# Altium schematic symbol library 2.9 - HT系列单片机.SchLib: 59 symbols
Pins are listed as number, name and electrical type; pins without a type are passive.

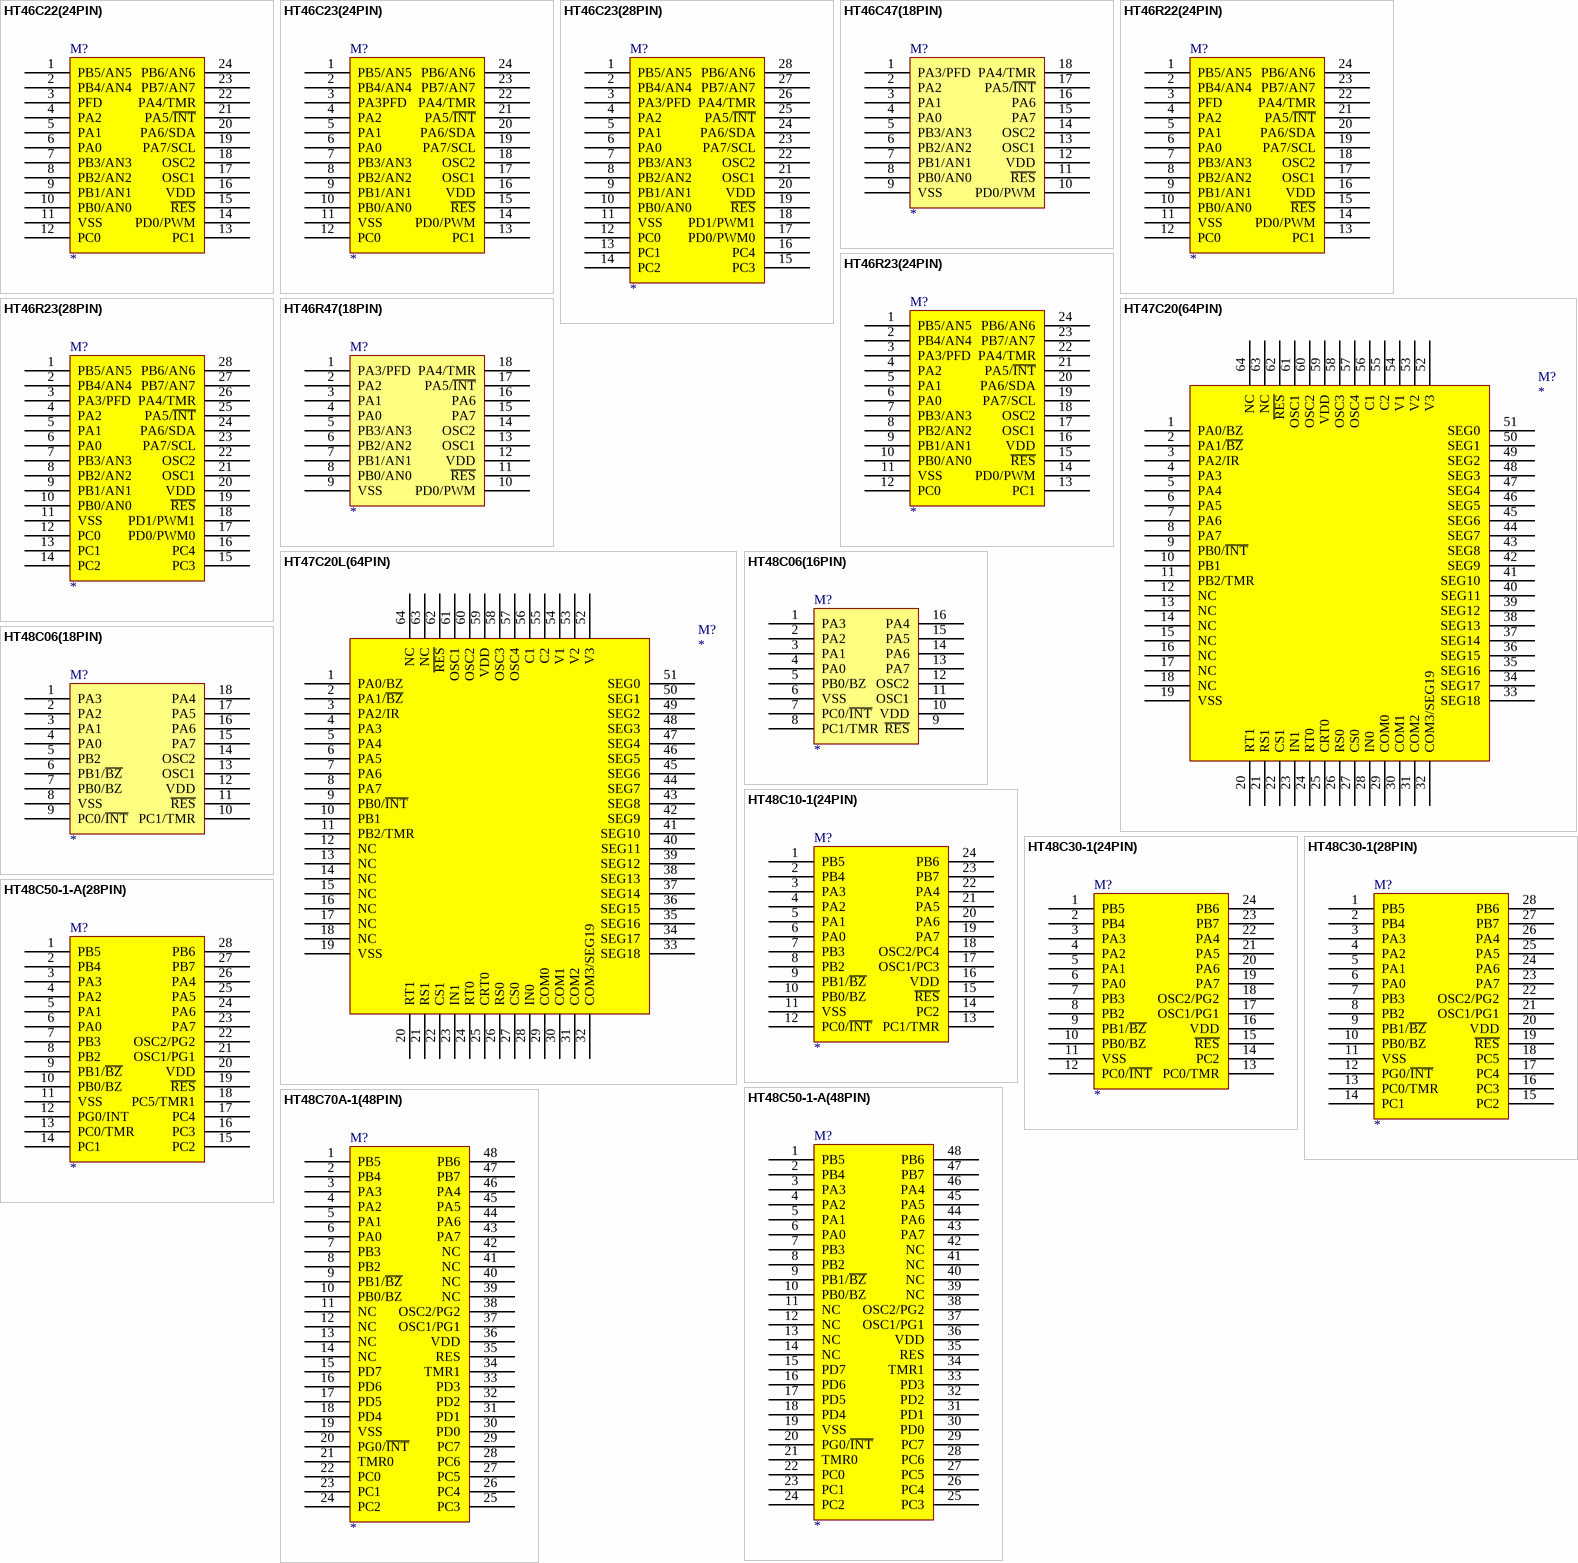
[diagram p0: symbols HT46C22(24PIN) to HT48C70A-1(48PIN)]

## HT46C22(24PIN)
designator M?
HT46C22(24PIN); 唯一出售店铺网址: https://shop463601444.taobao.com
footprint SKDIP24
footprint SOP24
pins: 1 PB5/AN5, 2 PB4/AN4, 3 PFD, 4 PA2, 5 PA1, 6 PA0, 7 PB3/AN3, 8 PB2/AN2, 9 PB1/AN1, 10 PB0/AN0, 11 VSS, 12 PC0, 13 PC1, 14 PD0/PWM, 15 ~{RES}, 16 VDD, 17 OSC1, 18 OSC2, 19 PA7/SCL, 20 PA6/SDA, 21 PA5/~{INT}, 22 PA4/TMR, 23 PB7/AN7, 24 PB6/AN6

## HT46C23(24PIN)
designator M?
HT46C23(24PIN)
footprint SKDIP24
footprint SOP24
pins: 1 PB5/AN5, 2 PB4/AN4, 3 PA3PFD, 4 PA2, 5 PA1, 6 PA0, 7 PB3/AN3, 8 PB2/AN2, 9 PB1/AN1, 10 PB0/AN0, 11 VSS, 12 PC0, 13 PC1, 14 PD0/PWM, 15 ~{RES}, 16 VDD, 17 OSC1, 18 OSC2, 19 PA7/SCL, 20 PA6/SDA, 21 PA5/~{INT}, 22 PA4/TMR, 23 PB7/AN7, 24 PB6/AN6

## HT46C23(28PIN)
designator M?
HT46R23(28PIN)
footprint SKDIP28
footprint SOP28
pins: 1 PB5/AN5, 2 PB4/AN4, 3 PA3/PFD, 4 PA2, 5 PA1, 6 PA0, 7 PB3/AN3, 8 PB2/AN2, 9 PB1/AN1, 10 PB0/AN0, 11 VSS, 12 PC0, 13 PC1, 14 PC2, 15 PC3, 16 PC4, 17 PD0/PWM0, 18 PD1/PWM1, 19 ~{RES}, 20 VDD, 21 OSC1, 22 OSC2, 23 PA7/SCL, 24 PA6/SDA, 25 PA5/~{INT}, 26 PA4/TMR, 27 PB7/AN7, 28 PB6/AN6

## HT46C47(18PIN)
designator M?
HT46C47(18PIN)
footprint DIP18
footprint SOP18
pins: 1 PA3/PFD, 2 PA2, 3 PA1, 4 PA0, 5 PB3/AN3, 6 PB2/AN2, 7 PB1/AN1, 8 PB0/AN0, 9 VSS, 10 PD0/PWM, 11 ~{RES}, 12 VDD, 13 OSC1, 14 OSC2, 15 PA7, 16 PA6, 17 PA5/~{INT}, 18 PA4/TMR

## HT46R22(24PIN)
designator M?
HT46R22(24PIN)
footprint SKDIP24
footprint SOP24
pins: 1 PB5/AN5, 2 PB4/AN4, 3 PFD, 4 PA2, 5 PA1, 6 PA0, 7 PB3/AN3, 8 PB2/AN2, 9 PB1/AN1, 10 PB0/AN0, 11 VSS, 12 PC0, 13 PC1, 14 PD0/PWM, 15 ~{RES}, 16 VDD, 17 OSC1, 18 OSC2, 19 PA7/SCL, 20 PA6/SDA, 21 PA5/~{INT}, 22 PA4/TMR, 23 PB7/AN7, 24 PB6/AN6

## HT46R23(24PIN)
designator M?
HT46R23(24PIN)
footprint SKDIP24
footprint SOP24
pins: 1 PB5/AN5, 2 PB4/AN4, 3 PA3/PFD, 4 PA2, 5 PA1, 6 PA0, 7 PB3/AN3, 8 PB2/AN2, 9 PB1/AN1, 10 PB0/AN0, 11 VSS, 12 PC0, 13 PC1, 14 PD0/PWM, 15 ~{RES}, 16 VDD, 17 OSC1, 18 OSC2, 19 PA7/SCL, 20 PA6/SDA, 21 PA5/~{INT}, 22 PA4/TMR, 23 PB7/AN7, 24 PB6/AN6

## HT46R23(28PIN)
designator M?
HT46R23(28PIN)
footprint SKDIP28
footprint SOP28
pins: 1 PB5/AN5, 2 PB4/AN4, 3 PA3/PFD, 4 PA2, 5 PA1, 6 PA0, 7 PB3/AN3, 8 PB2/AN2, 9 PB1/AN1, 10 PB0/AN0, 11 VSS, 12 PC0, 13 PC1, 14 PC2, 15 PC3, 16 PC4, 17 PD0/PWM0, 18 PD1/PWM1, 19 ~{RES}, 20 VDD, 21 OSC1, 22 OSC2, 23 PA7/SCL, 24 PA6/SDA, 25 PA5/~{INT}, 26 PA4/TMR, 27 PB7/AN7, 28 PB6/AN6

## HT46R47(18PIN)
designator M?
HT46R47(18PIN)
footprint DIP18
footprint SOP18
pins: 1 PA3/PFD, 2 PA2, 3 PA1, 4 PA0, 5 PB3/AN3, 6 PB2/AN2, 7 PB1/AN1, 8 PB0/AN0, 9 VSS, 10 PD0/PWM, 11 ~{RES}, 12 VDD, 13 OSC1, 14 OSC2, 15 PA7, 16 PA6, 17 PA5/~{INT}, 18 PA4/TMR

## HT47C20(64PIN)
designator M?
HT47C20(64PIN)
footprint QFP64
pins: 1 PA0/BZ, 2 PA1/~{BZ}, 3 PA2/IR, 4 PA3, 5 PA4, 6 PA5, 7 PA6, 8 PA7, 9 PB0/~{INT}, 10 PB1, 11 PB2/TMR, 12 NC, 13 NC, 14 NC, 15 NC, 16 NC, 17 NC, 18 NC, 19 VSS, 20 RT1, 21 RS1, 22 CS1, 23 IN1, 24 RT0, 25 CRT0, 26 RS0, 27 CS0, 28 IN0, 29 COM0, 30 COM1, 31 COM2, 32 COM3/SEG19, 33 SEG18, 34 SEG17, 35 SEG16, 36 SEG15, 37 SEG14, 38 SEG13, 39 SEG12, 40 SEG11, 41 SEG10, 42 SEG9, 43 SEG8, 44 SEG7, 45 SEG6, 46 SEG5, 47 SEG4, 48 SEG3, 49 SEG2, 50 SEG1, 51 SEG0, 52 V3, 53 V2, 54 V1, 55 C2, 56 C1, 57 OSC4, 58 OSC3, 59 VDD, 60 OSC2, 61 OSC1, 62 ~{RES}, 63 NC, 64 NC

## HT47C20L(64PIN)
designator M?
HT47C20L(64PIN)
footprint QFP64
pins: 1 PA0/BZ, 2 PA1/~{BZ}, 3 PA2/IR, 4 PA3, 5 PA4, 6 PA5, 7 PA6, 8 PA7, 9 PB0/~{INT}, 10 PB1, 11 PB2/TMR, 12 NC, 13 NC, 14 NC, 15 NC, 16 NC, 17 NC, 18 NC, 19 VSS, 20 RT1, 21 RS1, 22 CS1, 23 IN1, 24 RT0, 25 CRT0, 26 RS0, 27 CS0, 28 IN0, 29 COM0, 30 COM1, 31 COM2, 32 COM3/SEG19, 33 SEG18, 34 SEG17, 35 SEG16, 36 SEG15, 37 SEG14, 38 SEG13, 39 SEG12, 40 SEG11, 41 SEG10, 42 SEG9, 43 SEG8, 44 SEG7, 45 SEG6, 46 SEG5, 47 SEG4, 48 SEG3, 49 SEG2, 50 SEG1, 51 SEG0, 52 V3, 53 V2, 54 V1, 55 C2, 56 C1, 57 OSC4, 58 OSC3, 59 VDD, 60 OSC2, 61 OSC1, 62 ~{RES}, 63 NC, 64 NC

## HT48C06(16PIN)
designator M?
HT48C06(16PIN)
footprint SSOP16
pins: 1 PA3, 2 PA2, 3 PA1, 4 PA0, 5 PB0/BZ, 6 VSS, 7 PC0/~{INT}, 8 PC1/TMR, 9 ~{RES}, 10 VDD, 11 OSC1, 12 OSC2, 13 PA7, 14 PA6, 15 PA5, 16 PA4

## HT48C06(18PIN)
designator M?
HT48C06(18PIN)
footprint DIP18
footprint SOP18
pins: 1 PA3, 2 PA2, 3 PA1, 4 PA0, 5 PB2, 6 PB1/~{BZ}, 7 PB0/BZ, 8 VSS, 9 PC0/~{INT}, 10 PC1/TMR, 11 ~{RES}, 12 VDD, 13 OSC1, 14 OSC2, 15 PA7, 16 PA6, 17 PA5, 18 PA4

## HT48C10-1(24PIN)
designator M?
HT48C10-1(24PIN)
footprint SKDIP24
footprint SOP24
pins: 1 PB5, 2 PB4, 3 PA3, 4 PA2, 5 PA1, 6 PA0, 7 PB3, 8 PB2, 9 PB1/~{BZ}, 10 PB0/BZ, 11 VSS, 12 PC0/~{INT}, 13 PC1/TMR, 14 PC2, 15 ~{RES}, 16 VDD, 17 OSC1/PC3, 18 OSC2/PC4, 19 PA7, 20 PA6, 21 PA5, 22 PA4, 23 PB7, 24 PB6

## HT48C30-1(24PIN)
designator M?
HT48C30-1(24PIN)
footprint SKDIP24
footprint SOP24
pins: 1 PB5, 2 PB4, 3 PA3, 4 PA2, 5 PA1, 6 PA0, 7 PB3, 8 PB2, 9 PB1/~{BZ}, 10 PB0/BZ, 11 VSS, 12 PC0/~{INT}, 13 PC0/TMR, 14 PC2, 15 ~{RES}, 16 VDD, 17 OSC1/PG1, 18 OSC2/PG2, 19 PA7, 20 PA6, 21 PA5, 22 PA4, 23 PB7, 24 PB6

## HT48C30-1(28PIN)
designator M?
HT48C30-1(28PIN)
footprint SKDIP28
footprint SOP28
pins: 1 PB5, 2 PB4, 3 PA3, 4 PA2, 5 PA1, 6 PA0, 7 PB3, 8 PB2, 9 PB1/~{BZ}, 10 PB0/BZ, 11 VSS, 12 PG0/~{INT}, 13 PC0/TMR, 14 PC1, 15 PC2, 16 PC3, 17 PC4, 18 PC5, 19 ~{RES}, 20 VDD, 21 OSC1/PG1, 22 OSC2/PG2, 23 PA7, 24 PA6, 25 PA5, 26 PA4, 27 PB7, 28 PB6

## HT48C50-1-A(28PIN)
designator M?
HT48C50-1-A(28PIN)
footprint SKDIP28
footprint SOP28
pins: 1 PB5, 2 PB4, 3 PA3, 4 PA2, 5 PA1, 6 PA0, 7 PB3, 8 PB2, 9 PB1/~{BZ}, 10 PB0/BZ, 11 VSS, 12 PG0/INT, 13 PC0/TMR, 14 PC1, 15 PC2, 16 PC3, 17 PC4, 18 PC5/TMR1, 19 ~{RES}, 20 VDD, 21 OSC1/PG1, 22 OSC2/PG2, 23 PA7, 24 PA6, 25 PA5, 26 PA4, 27 PB7, 28 PB6

## HT48C50-1-A(48PIN)
designator M?
HT48C50A-1(48PIN)
footprint SSOP48
pins: 1 PB5, 2 PB4, 3 PA3, 4 PA2, 5 PA1, 6 PA0, 7 PB3, 8 PB2, 9 PB1/~{BZ}, 10 PB0/BZ, 11 NC, 12 NC, 13 NC, 14 NC, 15 PD7, 16 PD6, 17 PD5, 18 PD4, 19 VSS, 20 PG0/~{INT}, 21 TMR0, 22 PC0, 23 PC1, 24 PC2, 25 PC3, 26 PC4, 27 PC5, 28 PC6, 29 PC7, 30 PD0, 31 PD1, 32 PD2, 33 PD3, 34 TMR1, 35 RES, 36 VDD, 37 OSC1/PG1, 38 OSC2/PG2, 39 NC, 40 NC, 41 NC, 42 NC, 43 PA7, 44 PA6, 45 PA5, 46 PA4, 47 PB7, 48 PB6

## HT48C70A-1(48PIN)
designator M?
HT48C70A-1(48PIN)
footprint SSOP48
pins: 1 PB5, 2 PB4, 3 PA3, 4 PA2, 5 PA1, 6 PA0, 7 PB3, 8 PB2, 9 PB1/~{BZ}, 10 PB0/BZ, 11 NC, 12 NC, 13 NC, 14 NC, 15 PD7, 16 PD6, 17 PD5, 18 PD4, 19 VSS, 20 PG0/~{INT}, 21 TMR0, 22 PC0, 23 PC1, 24 PC2, 25 PC3, 26 PC4, 27 PC5, 28 PC6, 29 PC7, 30 PD0, 31 PD1, 32 PD2, 33 PD3, 34 TMR1, 35 RES, 36 VDD, 37 OSC1/PG1, 38 OSC2/PG2, 39 NC, 40 NC, 41 NC, 42 NC, 43 PA7, 44 PA6, 45 PA5, 46 PA4, 47 PB7, 48 PB6

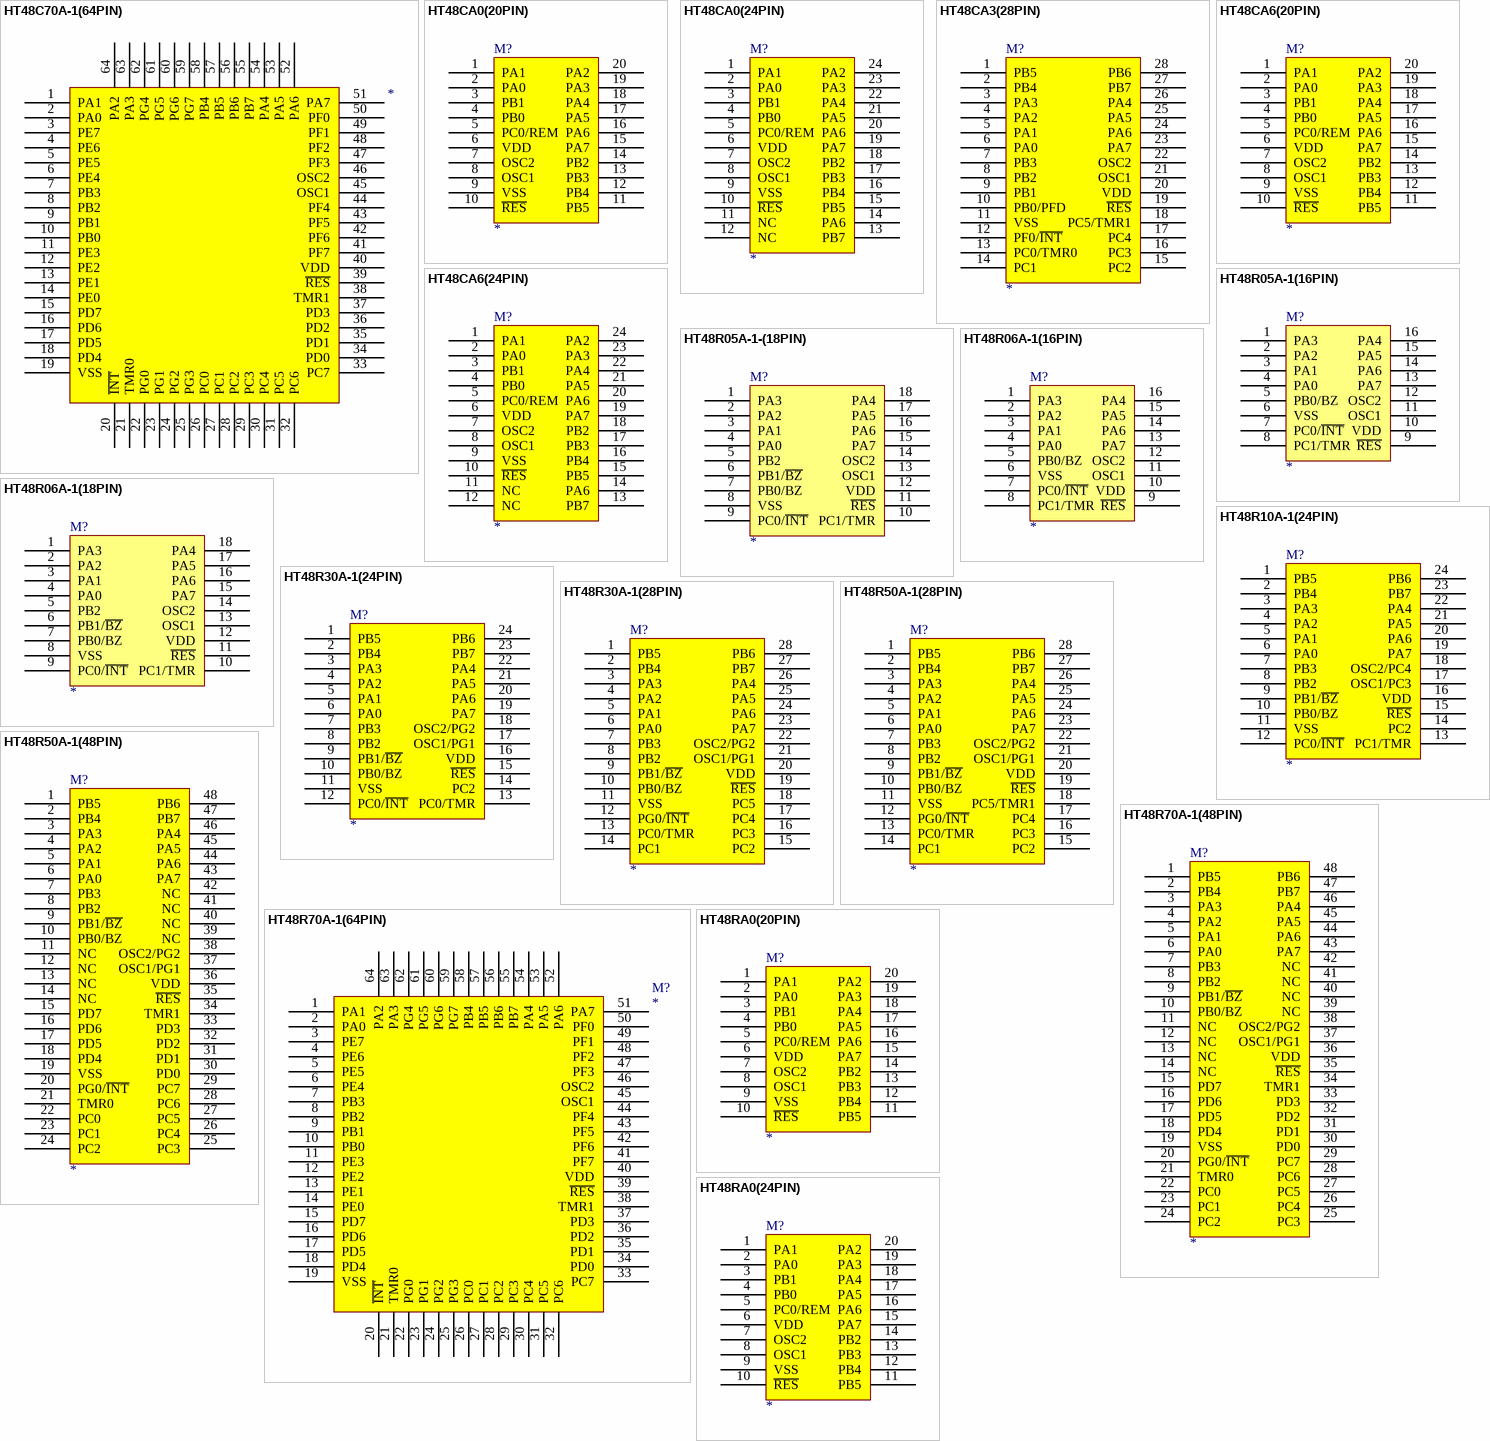
[diagram p1: symbols HT48C70A-1(64PIN) to HT48RA0(24PIN)]

## HT48C70A-1(64PIN)
designator ?
pins: 1 PA1, 2 PA0, 3 PE7, 4 PE6, 5 PE5, 6 PE4, 7 PB3, 8 PB2, 9 PB1, 10 PB0, 11 PE3, 12 PE2, 13 PE1, 14 PE0, 15 PD7, 16 PD6, 17 PD5, 18 PD4, 19 VSS, 20 ~{INT}, 21 TMR0, 22 PG0, 23 PG1, 24 PG2, 25 PG3, 26 PC0, 27 PC1, 28 PC2, 29 PC3, 30 PC4, 31 PC5, 32 PC6, 33 PC7, 34 PD0, 35 PD1, 36 PD2, 37 PD3, 38 TMR1, 39 ~{RES}, 40 VDD, 41 PF7, 42 PF6, 43 PF5, 44 PF4, 45 OSC1, 46 OSC2, 47 PF3, 48 PF2, 49 PF1, 50 PF0, 51 PA7, 52 PA6, 53 PA5, 54 PA4, 55 PB7, 56 PB6, 57 PB5, 58 PB4, 59 PG7, 60 PG6, 61 PG5, 62 PG4, 63 PA3, 64 PA2

## HT48CA0(20PIN)
designator M?
HT48CA0
footprint SOP20
footprint DIP20
pins: 1 PA1, 2 PA0, 3 PB1, 4 PB0, 5 PC0/REM, 6 VDD, 7 OSC2, 8 OSC1, 9 VSS, 10 ~{RES}, 11 PB5, 12 PB4, 13 PB3, 14 PB2, 15 PA7, 16 PA6, 17 PA5, 18 PA4, 19 PA3, 20 PA2

## HT48CA0(24PIN)
designator M?
HT48CA0(24PIN)
footprint SOP24
pins: 1 PA1, 2 PA0, 3 PB1, 4 PB0, 5 PC0/REM, 6 VDD, 7 OSC2, 8 OSC1, 9 VSS, 10 ~{RES}, 11 NC, 12 NC, 13 PB7, 14 PA6, 15 PB5, 16 PB4, 17 PB3, 18 PB2, 19 PA7, 20 PA6, 21 PA5, 22 PA4, 23 PA3, 24 PA2

## HT48CA3(28PIN)
designator M?
HT48CA3(28PIN)
footprint SKDIP28
footprint SOP28
pins: 1 PB5, 2 PB4, 3 PA3, 4 PA2, 5 PA1, 6 PA0, 7 PB3, 8 PB2, 9 PB1, 10 PB0/PFD, 11 VSS, 12 PF0/~{INT}, 13 PC0/TMR0, 14 PC1, 15 PC2, 16 PC3, 17 PC4, 18 PC5/TMR1, 19 ~{RES}, 20 VDD, 21 OSC1, 22 OSC2, 23 PA7, 24 PA6, 25 PA5, 26 PA4, 27 PB7, 28 PB6

## HT48CA6(20PIN)
designator M?
HT48CA6
footprint SOP20
pins: 1 PA1, 2 PA0, 3 PB1, 4 PB0, 5 PC0/REM, 6 VDD, 7 OSC2, 8 OSC1, 9 VSS, 10 ~{RES}, 11 PB5, 12 PB4, 13 PB3, 14 PB2, 15 PA7, 16 PA6, 17 PA5, 18 PA4, 19 PA3, 20 PA2

## HT48CA6(24PIN)
designator M?
HT48CA6(24PIN)
footprint SOP24
pins: 1 PA1, 2 PA0, 3 PB1, 4 PB0, 5 PC0/REM, 6 VDD, 7 OSC2, 8 OSC1, 9 VSS, 10 ~{RES}, 11 NC, 12 NC, 13 PB7, 14 PA6, 15 PB5, 16 PB4, 17 PB3, 18 PB2, 19 PA7, 20 PA6, 21 PA5, 22 PA4, 23 PA3, 24 PA2

## HT48R05A-1(16PIN)
designator M?
HT48R05A-1-16(16PIN)
footprint SSOP16
pins: 1 PA3, 2 PA2, 3 PA1, 4 PA0, 5 PB0/BZ, 6 VSS, 7 PC0/~{INT}, 8 PC1/TMR, 9 ~{RES}, 10 VDD, 11 OSC1, 12 OSC2, 13 PA7, 14 PA6, 15 PA5, 16 PA4

## HT48R05A-1-(18PIN)
designator M?
HT48R05A-1-(18PIN)
footprint DIP18
footprint SOP-18
pins: 1 PA3, 2 PA2, 3 PA1, 4 PA0, 5 PB2, 6 PB1/~{BZ}, 7 PB0/BZ, 8 VSS, 9 PC0/~{INT}, 10 PC1/TMR, 11 ~{RES}, 12 VDD, 13 OSC1, 14 OSC2, 15 PA7, 16 PA6, 17 PA5, 18 PA4

## HT48R06A-1(16PIN)
designator M?
HT48R06A-1(16PIN)
footprint SSOP16
pins: 1 PA3, 2 PA2, 3 PA1, 4 PA0, 5 PB0/BZ, 6 VSS, 7 PC0/~{INT}, 8 PC1/TMR, 9 ~{RES}, 10 VDD, 11 OSC1, 12 OSC2, 13 PA7, 14 PA6, 15 PA5, 16 PA4

## HT48R06A-1(18PIN)
designator M?
HT48R06A-1(18PIN)
footprint DIP18
footprint SOP18
pins: 1 PA3, 2 PA2, 3 PA1, 4 PA0, 5 PB2, 6 PB1/~{BZ}, 7 PB0/BZ, 8 VSS, 9 PC0/~{INT}, 10 PC1/TMR, 11 ~{RES}, 12 VDD, 13 OSC1, 14 OSC2, 15 PA7, 16 PA6, 17 PA5, 18 PA4

## HT48R10A-1(24PIN)
designator M?
HT48R10A-1(24PIN)
footprint SKDIP24
footprint SOP24
pins: 1 PB5, 2 PB4, 3 PA3, 4 PA2, 5 PA1, 6 PA0, 7 PB3, 8 PB2, 9 PB1/~{BZ}, 10 PB0/BZ, 11 VSS, 12 PC0/~{INT}, 13 PC1/TMR, 14 PC2, 15 ~{RES}, 16 VDD, 17 OSC1/PC3, 18 OSC2/PC4, 19 PA7, 20 PA6, 21 PA5, 22 PA4, 23 PB7, 24 PB6

## HT48R30A-1(24PIN)
designator M?
HT48R30A-1(24PIN)
footprint SKDIP24
footprint SOP24
pins: 1 PB5, 2 PB4, 3 PA3, 4 PA2, 5 PA1, 6 PA0, 7 PB3, 8 PB2, 9 PB1/~{BZ}, 10 PB0/BZ, 11 VSS, 12 PC0/~{INT}, 13 PC0/TMR, 14 PC2, 15 ~{RES}, 16 VDD, 17 OSC1/PG1, 18 OSC2/PG2, 19 PA7, 20 PA6, 21 PA5, 22 PA4, 23 PB7, 24 PB6

## HT48R30A-1(28PIN)
designator M?
HT48R30A-1(28PIN)
footprint SKDIP28
footprint SOP28
pins: 1 PB5, 2 PB4, 3 PA3, 4 PA2, 5 PA1, 6 PA0, 7 PB3, 8 PB2, 9 PB1/~{BZ}, 10 PB0/BZ, 11 VSS, 12 PG0/~{INT}, 13 PC0/TMR, 14 PC1, 15 PC2, 16 PC3, 17 PC4, 18 PC5, 19 ~{RES}, 20 VDD, 21 OSC1/PG1, 22 OSC2/PG2, 23 PA7, 24 PA6, 25 PA5, 26 PA4, 27 PB7, 28 PB6

## HT48R50A-1(28PIN)
designator M?
HT48R50A-1(28PIN)
footprint SKDIP28
footprint SOP28
pins: 1 PB5, 2 PB4, 3 PA3, 4 PA2, 5 PA1, 6 PA0, 7 PB3, 8 PB2, 9 PB1/~{BZ}, 10 PB0/BZ, 11 VSS, 12 PG0/~{INT}, 13 PC0/TMR, 14 PC1, 15 PC2, 16 PC3, 17 PC4, 18 PC5/TMR1, 19 ~{RES}, 20 VDD, 21 OSC1/PG1, 22 OSC2/PG2, 23 PA7, 24 PA6, 25 PA5, 26 PA4, 27 PB7, 28 PB6

## HT48R50A-1(48PIN)
designator M?
HT48R50A-1(48PIN)
footprint SSOP48
pins: 1 PB5, 2 PB4, 3 PA3, 4 PA2, 5 PA1, 6 PA0, 7 PB3, 8 PB2, 9 PB1/~{BZ}, 10 PB0/BZ, 11 NC, 12 NC, 13 NC, 14 NC, 15 PD7, 16 PD6, 17 PD5, 18 PD4, 19 VSS, 20 PG0/~{INT}, 21 TMR0, 22 PC0, 23 PC1, 24 PC2, 25 PC3, 26 PC4, 27 PC5, 28 PC6, 29 PC7, 30 PD0, 31 PD1, 32 PD2, 33 PD3, 34 TMR1, 35 ~{RES}, 36 VDD, 37 OSC1/PG1, 38 OSC2/PG2, 39 NC, 40 NC, 41 NC, 42 NC, 43 PA7, 44 PA6, 45 PA5, 46 PA4, 47 PB7, 48 PB6

## HT48R70A-1(48PIN)
designator M?
HT48R70A-1(48PIN)
footprint SSOP48
pins: 1 PB5, 2 PB4, 3 PA3, 4 PA2, 5 PA1, 6 PA0, 7 PB3, 8 PB2, 9 PB1/~{BZ}, 10 PB0/BZ, 11 NC, 12 NC, 13 NC, 14 NC, 15 PD7, 16 PD6, 17 PD5, 18 PD4, 19 VSS, 20 PG0/~{INT}, 21 TMR0, 22 PC0, 23 PC1, 24 PC2, 25 PC3, 26 PC4, 27 PC5, 28 PC6, 29 PC7, 30 PD0, 31 PD1, 32 PD2, 33 PD3, 34 TMR1, 35 ~{RES}, 36 VDD, 37 OSC1/PG1, 38 OSC2/PG2, 39 NC, 40 NC, 41 NC, 42 NC, 43 PA7, 44 PA6, 45 PA5, 46 PA4, 47 PB7, 48 PB6

## HT48R70A-1(64PIN)
designator M?
HT48R70A-1(64PIN)
footprint QFP64
pins: 1 PA1, 2 PA0, 3 PE7, 4 PE6, 5 PE5, 6 PE4, 7 PB3, 8 PB2, 9 PB1, 10 PB0, 11 PE3, 12 PE2, 13 PE1, 14 PE0, 15 PD7, 16 PD6, 17 PD5, 18 PD4, 19 VSS, 20 ~{INT}, 21 TMR0, 22 PG0, 23 PG1, 24 PG2, 25 PG3, 26 PC0, 27 PC1, 28 PC2, 29 PC3, 30 PC4, 31 PC5, 32 PC6, 33 PC7, 34 PD0, 35 PD1, 36 PD2, 37 PD3, 38 TMR1, 39 ~{RES}, 40 VDD, 41 PF7, 42 PF6, 43 PF5, 44 PF4, 45 OSC1, 46 OSC2, 47 PF3, 48 PF2, 49 PF1, 50 PF0, 51 PA7, 52 PA6, 53 PA5, 54 PA4, 55 PB7, 56 PB6, 57 PB5, 58 PB4, 59 PG7, 60 PG6, 61 PG5, 62 PG4, 63 PA3, 64 PA2

## HT48RA0(20PIN)
designator M?
HT48RA0(20PIN)
footprint SOP20
pins: 1 PA1, 2 PA0, 3 PB1, 4 PB0, 5 PC0/REM, 6 VDD, 7 OSC2, 8 OSC1, 9 VSS, 10 ~{RES}, 11 PB5, 12 PB4, 13 PB3, 14 PB2, 15 PA7, 16 PA6, 17 PA5, 18 PA4, 19 PA3, 20 PA2

## HT48RA0(24PIN)
designator M?
HT48RA0(24PIN)
footprint SOP24
pins: 1 PA1, 2 PA0, 3 PB1, 4 PB0, 5 PC0/REM, 6 VDD, 7 OSC2, 8 OSC1, 9 VSS, 10 ~{RES}, 11 PB5, 12 PB4, 13 PB3, 14 PB2, 15 PA7, 16 PA6, 17 PA5, 18 PA4, 19 PA3, 20 PA2

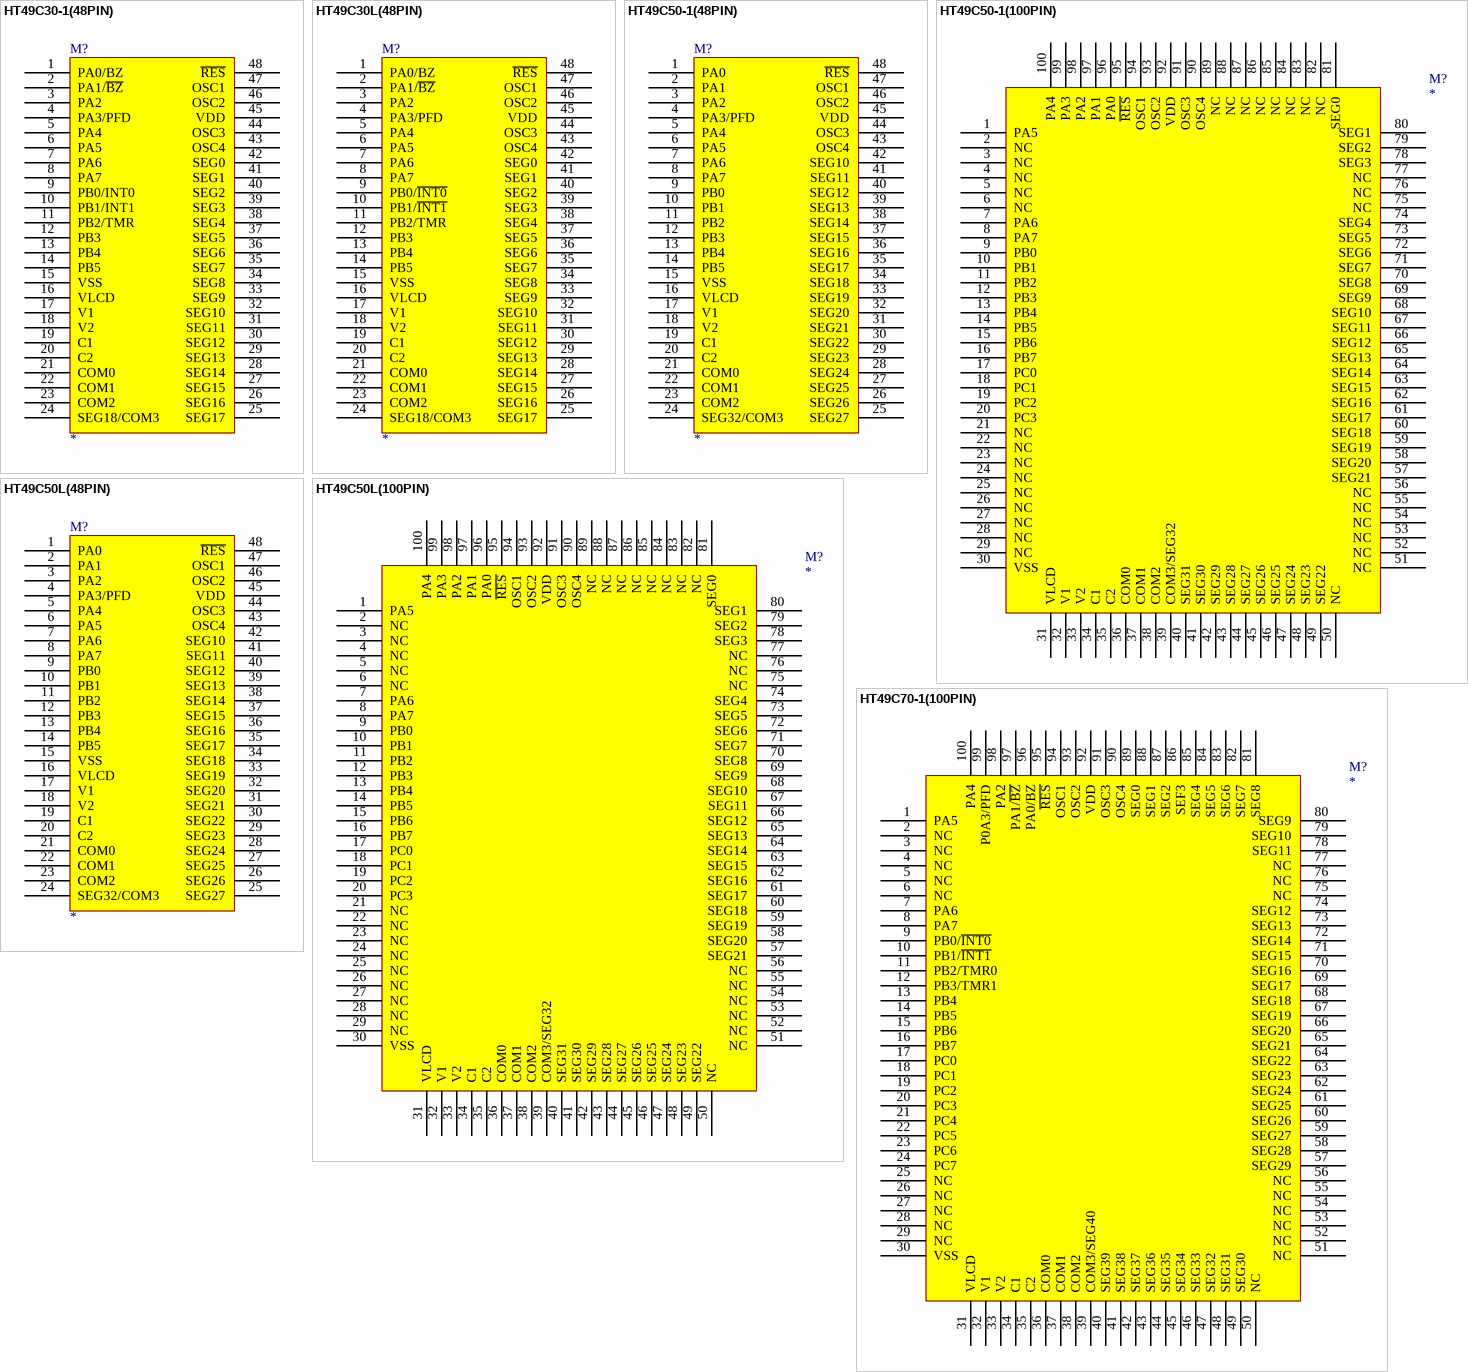
[diagram p2: symbols HT49C30-1(48PIN) to HT49C70-1(100PIN)]

## HT49C30-1(48PIN)
designator M?
HT49C30-1(48PIN)
footprint SSOP48
pins: 1 PA0/BZ, 2 PA1/~{BZ}, 3 PA2, 4 PA3/PFD, 5 PA4, 6 PA5, 7 PA6, 8 PA7, 9 PB0/INT0, 10 PB1/INT1, 11 PB2/TMR, 12 PB3, 13 PB4, 14 PB5, 15 VSS, 16 VLCD, 17 V1, 18 V2, 19 C1, 20 C2, 21 COM0, 22 COM1, 23 COM2, 24 SEG18/COM3, 25 SEG17, 26 SEG16, 27 SEG15, 28 SEG14, 29 SEG13, 30 SEG12, 31 SEG11, 32 SEG10, 33 SEG9, 34 SEG8, 35 SEG7, 36 SEG6, 37 SEG5, 38 SEG4, 39 SEG3, 40 SEG2, 41 SEG1, 42 SEG0, 43 OSC4, 44 OSC3, 45 VDD, 46 OSC2, 47 OSC1, 48 ~{RES}

## HT49C30L(48PIN)
designator M?
HT49C30L(48PIN)
footprint SSOP48
pins: 1 PA0/BZ, 2 PA1/~{BZ}, 3 PA2, 4 PA3/PFD, 5 PA4, 6 PA5, 7 PA6, 8 PA7, 9 PB0/~{INT0}, 10 PB1/~{INT1}, 11 PB2/TMR, 12 PB3, 13 PB4, 14 PB5, 15 VSS, 16 VLCD, 17 V1, 18 V2, 19 C1, 20 C2, 21 COM0, 22 COM1, 23 COM2, 24 SEG18/COM3, 25 SEG17, 26 SEG16, 27 SEG15, 28 SEG14, 29 SEG13, 30 SEG12, 31 SEG11, 32 SEG10, 33 SEG9, 34 SEG8, 35 SEG7, 36 SEG6, 37 SEG5, 38 SEG4, 39 SEG3, 40 SEG2, 41 SEG1, 42 SEG0, 43 OSC4, 44 OSC3, 45 VDD, 46 OSC2, 47 OSC1, 48 ~{RES}

## HT49C50-1(48PIN)
designator M?
HT49C50-1(48PIN)
footprint SSOP48
pins: 1 PA0, 2 PA1, 3 PA2, 4 PA3/PFD, 5 PA4, 6 PA5, 7 PA6, 8 PA7, 9 PB0, 10 PB1, 11 PB2, 12 PB3, 13 PB4, 14 PB5, 15 VSS, 16 VLCD, 17 V1, 18 V2, 19 C1, 20 C2, 21 COM0, 22 COM1, 23 COM2, 24 SEG32/COM3, 25 SEG27, 26 SEG26, 27 SEG25, 28 SEG24, 29 SEG23, 30 SEG22, 31 SEG21, 32 SEG20, 33 SEG19, 34 SEG18, 35 SEG17, 36 SEG16, 37 SEG15, 38 SEG14, 39 SEG13, 40 SEG12, 41 SEG11, 42 SEG10, 43 OSC4, 44 OSC3, 45 VDD, 46 OSC2, 47 OSC1, 48 ~{RES}

## HT49C50-1(100PIN)
designator M?
HT49C50-1(100QFP)
footprint QFP100
pins: 1 PA5, 2 NC, 3 NC, 4 NC, 5 NC, 6 NC, 7 PA6, 8 PA7, 9 PB0, 10 PB1, 11 PB2, 12 PB3, 13 PB4, 14 PB5, 15 PB6, 16 PB7, 17 PC0, 18 PC1, 19 PC2, 20 PC3, 21 NC, 22 NC, 23 NC, 24 NC, 25 NC, 26 NC, 27 NC, 28 NC, 29 NC, 30 VSS, 31 VLCD, 32 V1, 33 V2, 34 C1, 35 C2, 36 COM0, 37 COM1, 38 COM2, 39 COM3/SEG32, 40 SEG31, 41 SEG30, 42 SEG29, 43 SEG28, 44 SEG27, 45 SEG26, 46 SEG25, 47 SEG24, 48 SEG23, 49 SEG22, 50 NC, 51 NC, 52 NC, 53 NC, 54 NC, 55 NC, 56 NC, 57 SEG21, 58 SEG20, 59 SEG19, 60 SEG18, 61 SEG17, 62 SEG16, 63 SEG15, 64 SEG14, 65 SEG13, 66 SEG12, 67 SEG11, 68 SEG10, 69 SEG9, 70 SEG8, 71 SEG7, 72 SEG6, 73 SEG5, 74 SEG4, 75 NC, 76 NC, 77 NC, 78 SEG3, 79 SEG2, 80 SEG1, 81 SEG0, 82 NC, 83 NC, 84 NC, 85 NC, 86 NC, 87 NC, 88 NC, 89 NC, 90 OSC4, 91 OSC3, 92 VDD, 93 OSC2, 94 OSC1, 95 ~{RES}, 96 PA0, 97 PA1, 98 PA2, 99 PA3, 100 PA4

## HT49C50L(48PIN)
designator M?
HT49C50L(48PIN)
footprint SSOP48
pins: 1 PA0, 2 PA1, 3 PA2, 4 PA3/PFD, 5 PA4, 6 PA5, 7 PA6, 8 PA7, 9 PB0, 10 PB1, 11 PB2, 12 PB3, 13 PB4, 14 PB5, 15 VSS, 16 VLCD, 17 V1, 18 V2, 19 C1, 20 C2, 21 COM0, 22 COM1, 23 COM2, 24 SEG32/COM3, 25 SEG27, 26 SEG26, 27 SEG25, 28 SEG24, 29 SEG23, 30 SEG22, 31 SEG21, 32 SEG20, 33 SEG19, 34 SEG18, 35 SEG17, 36 SEG16, 37 SEG15, 38 SEG14, 39 SEG13, 40 SEG12, 41 SEG11, 42 SEG10, 43 OSC4, 44 OSC3, 45 VDD, 46 OSC2, 47 OSC1, 48 ~{RES}

## HT49C50L(100PIN)
designator M?
HT49C50L(100PIN)
footprint QFP100
pins: 1 PA5, 2 NC, 3 NC, 4 NC, 5 NC, 6 NC, 7 PA6, 8 PA7, 9 PB0, 10 PB1, 11 PB2, 12 PB3, 13 PB4, 14 PB5, 15 PB6, 16 PB7, 17 PC0, 18 PC1, 19 PC2, 20 PC3, 21 NC, 22 NC, 23 NC, 24 NC, 25 NC, 26 NC, 27 NC, 28 NC, 29 NC, 30 VSS, 31 VLCD, 32 V1, 33 V2, 34 C1, 35 C2, 36 COM0, 37 COM1, 38 COM2, 39 COM3/SEG32, 40 SEG31, 41 SEG30, 42 SEG29, 43 SEG28, 44 SEG27, 45 SEG26, 46 SEG25, 47 SEG24, 48 SEG23, 49 SEG22, 50 NC, 51 NC, 52 NC, 53 NC, 54 NC, 55 NC, 56 NC, 57 SEG21, 58 SEG20, 59 SEG19, 60 SEG18, 61 SEG17, 62 SEG16, 63 SEG15, 64 SEG14, 65 SEG13, 66 SEG12, 67 SEG11, 68 SEG10, 69 SEG9, 70 SEG8, 71 SEG7, 72 SEG6, 73 SEG5, 74 SEG4, 75 NC, 76 NC, 77 NC, 78 SEG3, 79 SEG2, 80 SEG1, 81 SEG0, 82 NC, 83 NC, 84 NC, 85 NC, 86 NC, 87 NC, 88 NC, 89 NC, 90 OSC4, 91 OSC3, 92 VDD, 93 OSC2, 94 OSC1, 95 ~{RES}, 96 PA0, 97 PA1, 98 PA2, 99 PA3, 100 PA4

## HT49C70-1(100PIN)
designator M?
HT49C70-1(100PIN)
footprint QFP100
pins: 1 PA5, 2 NC, 3 NC, 4 NC, 5 NC, 6 NC, 7 PA6, 8 PA7, 9 PB0/~{INT0}, 10 PB1/~{INT1}, 11 PB2/TMR0, 12 PB3/TMR1, 13 PB4, 14 PB5, 15 PB6, 16 PB7, 17 PC0, 18 PC1, 19 PC2, 20 PC3, 21 PC4, 22 PC5, 23 PC6, 24 PC7, 25 NC, 26 NC, 27 NC, 28 NC, 29 NC, 30 VSS, 31 VLCD, 32 V1, 33 V2, 34 C1, 35 C2, 36 COM0, 37 COM1, 38 COM2, 39 COM3/SEG40, 40 SEG39, 41 SEG38, 42 SEG37, 43 SEG36, 44 SEG35, 45 SEG34, 46 SEG33, 47 SEG32, 48 SEG31, 49 SEG30, 50 NC, 51 NC, 52 NC, 53 NC, 54 NC, 55 NC, 56 NC, 57 SEG29, 58 SEG28, 59 SEG27, 60 SEG26, 61 SEG25, 62 SEG24, 63 SEG23, 64 SEG22, 65 SEG21, 66 SEG20, 67 SEG19, 68 SEG18, 69 SEG17, 70 SEG16, 71 SEG15, 72 SEG14, 73 SEG13, 74 SEG12, 75 NC, 76 NC, 77 NC, 78 SEG11, 79 SEG10, 80 SEG9, 81 SEG8, 82 SEG7, 83 SEG6, 84 SEG5, 85 SEG4, 86 SEF3, 87 SEG2, 88 SEG1, 89 SEG0, 90 OSC4, 91 OSC3, 92 VDD, 93 OSC2, 94 OSC1, 95 ~{RES}, 96 PA0/BZ, 97 PA1/~{BZ}, 98 PA2, 99 P0A3/PFD, 100 PA4

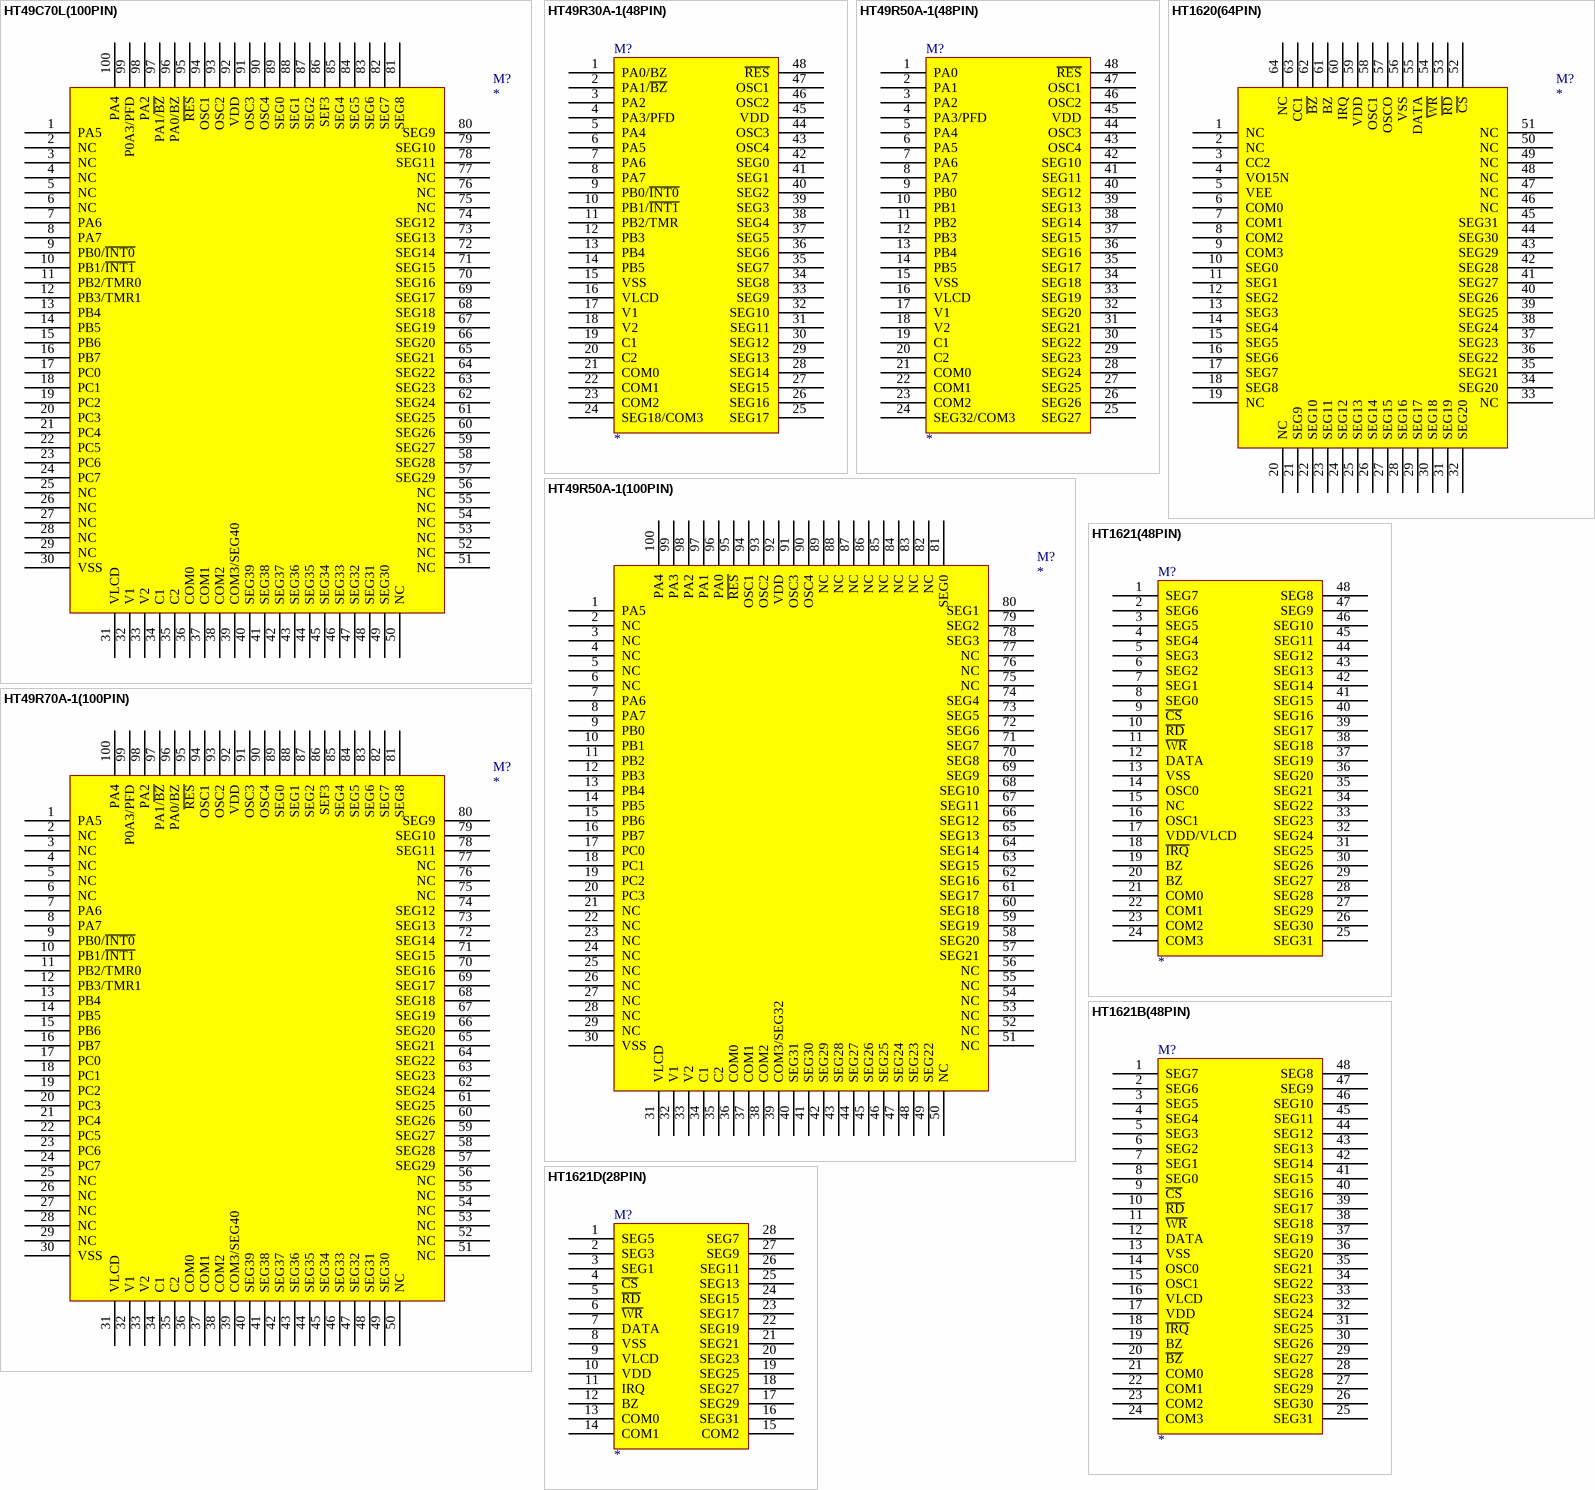
[diagram p3: symbols HT49C70L(100PIN) to HT1621D(28PIN)]

## HT49C70L(100PIN)
designator M?
HT49C70L(100PIN)
footprint QFP100
pins: 1 PA5, 2 NC, 3 NC, 4 NC, 5 NC, 6 NC, 7 PA6, 8 PA7, 9 PB0/~{INT0}, 10 PB1/~{INT1}, 11 PB2/TMR0, 12 PB3/TMR1, 13 PB4, 14 PB5, 15 PB6, 16 PB7, 17 PC0, 18 PC1, 19 PC2, 20 PC3, 21 PC4, 22 PC5, 23 PC6, 24 PC7, 25 NC, 26 NC, 27 NC, 28 NC, 29 NC, 30 VSS, 31 VLCD, 32 V1, 33 V2, 34 C1, 35 C2, 36 COM0, 37 COM1, 38 COM2, 39 COM3/SEG40, 40 SEG39, 41 SEG38, 42 SEG37, 43 SEG36, 44 SEG35, 45 SEG34, 46 SEG33, 47 SEG32, 48 SEG31, 49 SEG30, 50 NC, 51 NC, 52 NC, 53 NC, 54 NC, 55 NC, 56 NC, 57 SEG29, 58 SEG28, 59 SEG27, 60 SEG26, 61 SEG25, 62 SEG24, 63 SEG23, 64 SEG22, 65 SEG21, 66 SEG20, 67 SEG19, 68 SEG18, 69 SEG17, 70 SEG16, 71 SEG15, 72 SEG14, 73 SEG13, 74 SEG12, 75 NC, 76 NC, 77 NC, 78 SEG11, 79 SEG10, 80 SEG9, 81 SEG8, 82 SEG7, 83 SEG6, 84 SEG5, 85 SEG4, 86 SEF3, 87 SEG2, 88 SEG1, 89 SEG0, 90 OSC4, 91 OSC3, 92 VDD, 93 OSC2, 94 OSC1, 95 ~{RES}, 96 PA0/BZ, 97 PA1/~{BZ}, 98 PA2, 99 P0A3/PFD, 100 PA4

## HT49R30A-1(48PIN)
designator M?
HT49R30A-1(48PIN)
footprint SSOP48
pins: 1 PA0/BZ, 2 PA1/~{BZ}, 3 PA2, 4 PA3/PFD, 5 PA4, 6 PA5, 7 PA6, 8 PA7, 9 PB0/~{INT0}, 10 PB1/~{INT1}, 11 PB2/TMR, 12 PB3, 13 PB4, 14 PB5, 15 VSS, 16 VLCD, 17 V1, 18 V2, 19 C1, 20 C2, 21 COM0, 22 COM1, 23 COM2, 24 SEG18/COM3, 25 SEG17, 26 SEG16, 27 SEG15, 28 SEG14, 29 SEG13, 30 SEG12, 31 SEG11, 32 SEG10, 33 SEG9, 34 SEG8, 35 SEG7, 36 SEG6, 37 SEG5, 38 SEG4, 39 SEG3, 40 SEG2, 41 SEG1, 42 SEG0, 43 OSC4, 44 OSC3, 45 VDD, 46 OSC2, 47 OSC1, 48 ~{RES}

## HT49R50A-1(48PIN)
designator M?
HT49R50A-1(48PIN)
footprint SSOP48
pins: 1 PA0, 2 PA1, 3 PA2, 4 PA3/PFD, 5 PA4, 6 PA5, 7 PA6, 8 PA7, 9 PB0, 10 PB1, 11 PB2, 12 PB3, 13 PB4, 14 PB5, 15 VSS, 16 VLCD, 17 V1, 18 V2, 19 C1, 20 C2, 21 COM0, 22 COM1, 23 COM2, 24 SEG32/COM3, 25 SEG27, 26 SEG26, 27 SEG25, 28 SEG24, 29 SEG23, 30 SEG22, 31 SEG21, 32 SEG20, 33 SEG19, 34 SEG18, 35 SEG17, 36 SEG16, 37 SEG15, 38 SEG14, 39 SEG13, 40 SEG12, 41 SEG11, 42 SEG10, 43 OSC4, 44 OSC3, 45 VDD, 46 OSC2, 47 OSC1, 48 ~{RES}

## HT49R50A-1(100PIN)
designator M?
HT49R50A-1(100PIN)
footprint QFP100
pins: 1 PA5, 2 NC, 3 NC, 4 NC, 5 NC, 6 NC, 7 PA6, 8 PA7, 9 PB0, 10 PB1, 11 PB2, 12 PB3, 13 PB4, 14 PB5, 15 PB6, 16 PB7, 17 PC0, 18 PC1, 19 PC2, 20 PC3, 21 NC, 22 NC, 23 NC, 24 NC, 25 NC, 26 NC, 27 NC, 28 NC, 29 NC, 30 VSS, 31 VLCD, 32 V1, 33 V2, 34 C1, 35 C2, 36 COM0, 37 COM1, 38 COM2, 39 COM3/SEG32, 40 SEG31, 41 SEG30, 42 SEG29, 43 SEG28, 44 SEG27, 45 SEG26, 46 SEG25, 47 SEG24, 48 SEG23, 49 SEG22, 50 NC, 51 NC, 52 NC, 53 NC, 54 NC, 55 NC, 56 NC, 57 SEG21, 58 SEG20, 59 SEG19, 60 SEG18, 61 SEG17, 62 SEG16, 63 SEG15, 64 SEG14, 65 SEG13, 66 SEG12, 67 SEG11, 68 SEG10, 69 SEG9, 70 SEG8, 71 SEG7, 72 SEG6, 73 SEG5, 74 SEG4, 75 NC, 76 NC, 77 NC, 78 SEG3, 79 SEG2, 80 SEG1, 81 SEG0, 82 NC, 83 NC, 84 NC, 85 NC, 86 NC, 87 NC, 88 NC, 89 NC, 90 OSC4, 91 OSC3, 92 VDD, 93 OSC2, 94 OSC1, 95 ~{RES}, 96 PA0, 97 PA1, 98 PA2, 99 PA3, 100 PA4

## HT49R70A-1(100PIN)
designator M?
HT49R70A-1(100QFP)
footprint QFP100
pins: 1 PA5, 2 NC, 3 NC, 4 NC, 5 NC, 6 NC, 7 PA6, 8 PA7, 9 PB0/~{INT0}, 10 PB1/~{INT1}, 11 PB2/TMR0, 12 PB3/TMR1, 13 PB4, 14 PB5, 15 PB6, 16 PB7, 17 PC0, 18 PC1, 19 PC2, 20 PC3, 21 PC4, 22 PC5, 23 PC6, 24 PC7, 25 NC, 26 NC, 27 NC, 28 NC, 29 NC, 30 VSS, 31 VLCD, 32 V1, 33 V2, 34 C1, 35 C2, 36 COM0, 37 COM1, 38 COM2, 39 COM3/SEG40, 40 SEG39, 41 SEG38, 42 SEG37, 43 SEG36, 44 SEG35, 45 SEG34, 46 SEG33, 47 SEG32, 48 SEG31, 49 SEG30, 50 NC, 51 NC, 52 NC, 53 NC, 54 NC, 55 NC, 56 NC, 57 SEG29, 58 SEG28, 59 SEG27, 60 SEG26, 61 SEG25, 62 SEG24, 63 SEG23, 64 SEG22, 65 SEG21, 66 SEG20, 67 SEG19, 68 SEG18, 69 SEG17, 70 SEG16, 71 SEG15, 72 SEG14, 73 SEG13, 74 SEG12, 75 NC, 76 NC, 77 NC, 78 SEG11, 79 SEG10, 80 SEG9, 81 SEG8, 82 SEG7, 83 SEG6, 84 SEG5, 85 SEG4, 86 SEF3, 87 SEG2, 88 SEG1, 89 SEG0, 90 OSC4, 91 OSC3, 92 VDD, 93 OSC2, 94 OSC1, 95 ~{RES}, 96 PA0/BZ, 97 PA1/~{BZ}, 98 PA2, 99 P0A3/PFD, 100 PA4

## HT1620(64PIN)
designator M?
HT1620(64PIN)
footprint QFP64
pins: 1 NC, 2 NC, 3 CC2, 4 VO15N, 5 VEE, 6 COM0, 7 COM1, 8 COM2, 9 COM3, 10 SEG0, 11 SEG1, 12 SEG2, 13 SEG3, 14 SEG4, 15 SEG5, 16 SEG6, 17 SEG7, 18 SEG8, 19 NC, 20 NC, 21 SEG9, 22 SEG10, 23 SEG11, 24 SEG12, 25 SEG13, 26 SEG14, 27 SEG15, 28 SEG16, 29 SEG17, 30 SEG18, 31 SEG19, 32 SEG20, 33 NC, 34 SEG20, 35 SEG21, 36 SEG22, 37 SEG23, 38 SEG24, 39 SEG25, 40 SEG26, 41 SEG27, 42 SEG28, 43 SEG29, 44 SEG30, 45 SEG31, 46 NC, 47 NC, 48 NC, 49 NC, 50 NC, 51 NC, 52 ~{CS}, 53 ~{RD}, 54 ~{WR}, 55 DATA, 56 VSS, 57 OSCO, 58 OSC1, 59 VDD, 60 IRQ, 61 BZ, 62 ~{BZ}, 63 CC1, 64 NC

## HT1621(48PIN)
designator M?
HT1621(48PIN)
footprint SSOP48
pins: 1 SEG7, 2 SEG6, 3 SEG5, 4 SEG4, 5 SEG3, 6 SEG2, 7 SEG1, 8 SEG0, 9 ~{CS}, 10 ~{RD}, 11 ~{WR}, 12 DATA, 13 VSS, 14 OSC0, 15 NC, 16 OSC1, 17 VDD/VLCD, 18 ~{IRQ}, 19 BZ, 20 BZ, 21 COM0, 22 COM1, 23 COM2, 24 COM3, 25 SEG31, 26 SEG30, 27 SEG29, 28 SEG28, 29 SEG27, 30 SEG26, 31 SEG25, 32 SEG24, 33 SEG23, 34 SEG22, 35 SEG21, 36 SEG20, 37 SEG19, 38 SEG18, 39 SEG17, 40 SEG16, 41 SEG15, 42 SEG14, 43 SEG13, 44 SEG12, 45 SEG11, 46 SEG10, 47 SEG9, 48 SEG8

## HT1621B(48PIN)
designator M?
HT1621B(48PIN)
footprint SSOP48
footprint DIP48
pins: 1 SEG7, 2 SEG6, 3 SEG5, 4 SEG4, 5 SEG3, 6 SEG2, 7 SEG1, 8 SEG0, 9 ~{CS}, 10 ~{RD}, 11 ~{WR}, 12 DATA, 13 VSS, 14 OSC0, 15 OSC1, 16 VLCD, 17 VDD, 18 ~{IRQ}, 19 BZ, 20 ~{BZ}, 21 COM0, 22 COM1, 23 COM2, 24 COM3, 25 SEG31, 26 SEG30, 27 SEG29, 28 SEG28, 29 SEG27, 30 SEG26, 31 SEG25, 32 SEG24, 33 SEG23, 34 SEG22, 35 SEG21, 36 SEG20, 37 SEG19, 38 SEG18, 39 SEG17, 40 SEG16, 41 SEG15, 42 SEG14, 43 SEG13, 44 SEG12, 45 SEG11, 46 SEG10, 47 SEG9, 48 SEG8

## HT1621D(28PIN)
designator M?
HT1621D(28PIN)
footprint SKDIP28
pins: 1 SEG5, 2 SEG3, 3 SEG1, 4 ~{CS}, 5 ~{RD}, 6 ~{WR}, 7 DATA, 8 VSS, 9 VLCD, 10 VDD, 11 IRQ, 12 BZ, 13 COM0, 14 COM1, 15 COM2, 16 SEG31, 17 SEG29, 18 SEG27, 19 SEG25, 20 SEG23, 21 SEG21, 22 SEG19, 23 SEG17, 24 SEG15, 25 SEG13, 26 SEG11, 27 SEG9, 28 SEG7

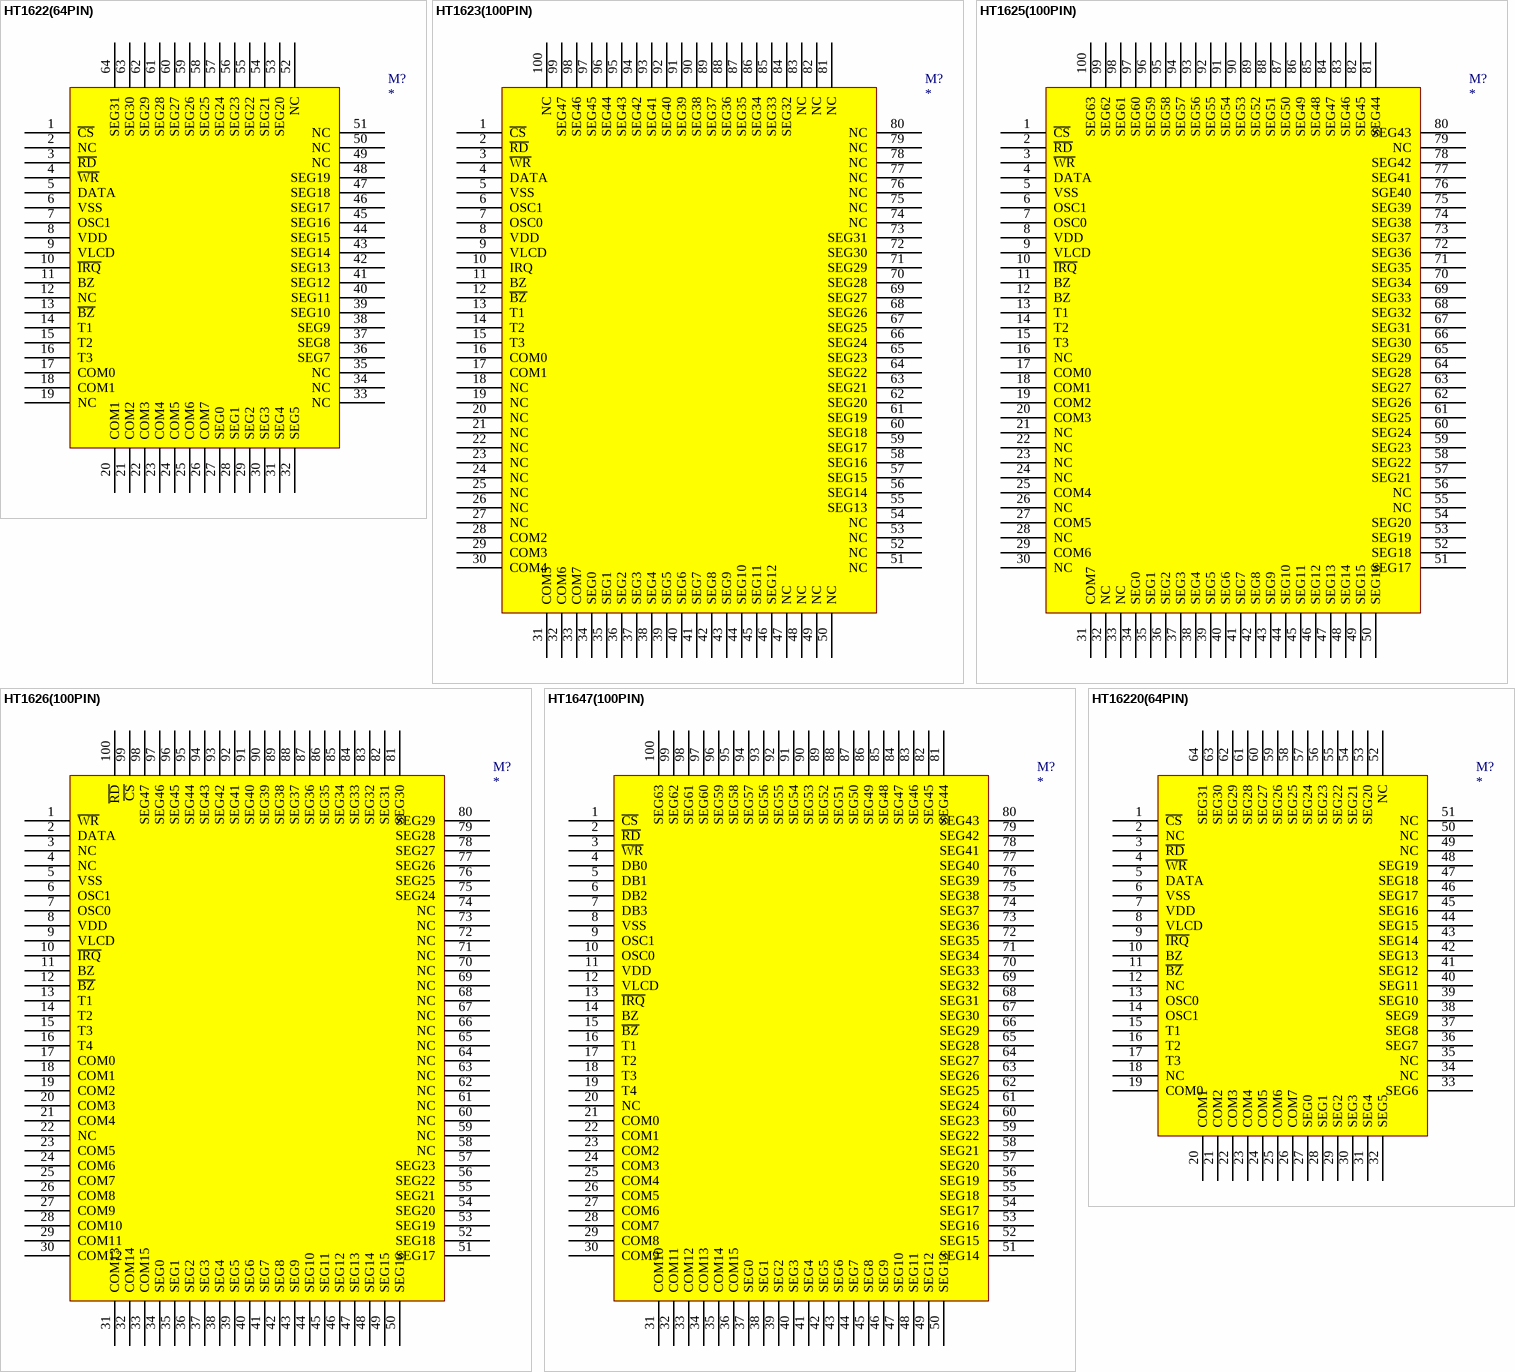
[diagram p4: symbols HT1622(64PIN) to HT16220(64PIN)]

## HT1622(64PIN)
designator M?
HT1622(64PIN)
footprint QFP64
pins: 1 ~{CS}, 2 NC, 3 ~{RD}, 4 ~{WR}, 5 DATA, 6 VSS, 7 OSC1, 8 VDD, 9 VLCD, 10 ~{IRQ}, 11 BZ, 12 NC, 13 ~{BZ}, 14 T1, 15 T2, 16 T3, 17 COM0, 18 COM1, 19 NC, 20 COM1, 21 COM2, 22 COM3, 23 COM4, 24 COM5, 25 COM6, 26 COM7, 27 SEG0, 28 SEG1, 29 SEG2, 30 SEG3, 31 SEG4, 32 SEG5, 33 NC, 34 NC, 35 NC, 36 SEG7, 37 SEG8, 38 SEG9, 39 SEG10, 40 SEG11, 41 SEG12, 42 SEG13, 43 SEG14, 44 SEG15, 45 SEG16, 46 SEG17, 47 SEG18, 48 SEG19, 49 NC, 50 NC, 51 NC, 52 NC, 53 SEG20, 54 SEG21, 55 SEG22, 56 SEG23, 57 SEG24, 58 SEG25, 59 SEG26, 60 SEG27, 61 SEG28, 62 SEG29, 63 SEG30, 64 SEG31

## HT1623(100PIN)
designator M?
HT1623(100PIN)
footprint QFP100
pins: 1 ~{CS}, 2 ~{RD}, 3 ~{WR}, 4 DATA, 5 VSS, 6 OSC1, 7 OSC0, 8 VDD, 9 VLCD, 10 IRQ, 11 BZ, 12 ~{BZ}, 13 T1, 14 T2, 15 T3, 16 COM0, 17 COM1, 18 NC, 19 NC, 20 NC, 21 NC, 22 NC, 23 NC, 24 NC, 25 NC, 26 NC, 27 NC, 28 COM2, 29 COM3, 30 COM4, 31 COM5, 32 COM6, 33 COM7, 34 SEG0, 35 SEG1, 36 SEG2, 37 SEG3, 38 SEG4, 39 SEG5, 40 SEG6, 41 SEG7, 42 SEG8, 43 SEG9, 44 SEG10, 45 SEG11, 46 SEG12, 47 NC, 48 NC, 49 NC, 50 NC, 51 NC, 52 NC, 53 NC, 54 NC, 55 SEG13, 56 SEG14, 57 SEG15, 58 SEG16, 59 SEG17, 60 SEG18, 61 SEG19, 62 SEG20, 63 SEG21, 64 SEG22, 65 SEG23, 66 SEG24, 67 SEG25, 68 SEG26, 69 SEG27, 70 SEG28, 71 SEG29, 72 SEG30, 73 SEG31, 74 NC, 75 NC, 76 NC, 77 NC, 78 NC, 79 NC, 80 NC, 81 NC, 82 NC, 83 NC, 84 SEG32, 85 SEG33, 86 SEG34, 87 SEG35, 88 SEG36, 89 SEG37, 90 SEG38, 91 SEG39, 92 SEG40, 93 SEG41, 94 SEG42, 95 SEG43, 96 SEG44, 97 SEG45, 98 SEG46, 99 SEG47, 100 NC

## HT1625(100PIN)
designator M?
HT1625(100PIN)
footprint QFP100
pins: 1 ~{CS}, 2 ~{RD}, 3 ~{WR}, 4 DATA, 5 VSS, 6 OSC1, 7 OSC0, 8 VDD, 9 VLCD, 10 ~{IRQ}, 11 BZ, 12 BZ, 13 T1, 14 T2, 15 T3, 16 NC, 17 COM0, 18 COM1, 19 COM2, 20 COM3, 21 NC, 22 NC, 23 NC, 24 NC, 25 COM4, 26 NC, 27 COM5, 28 NC, 29 COM6, 30 NC, 31 COM7, 32 NC, 33 NC, 34 SEG0, 35 SEG1, 36 SEG2, 37 SEG3, 38 SEG4, 39 SEG5, 40 SEG6, 41 SEG7, 42 SEG8, 43 SEG9, 44 SEG10, 45 SEG11, 46 SEG12, 47 SEG13, 48 SEG14, 49 SEG15, 50 SEG16, 51 SEG17, 52 SEG18, 53 SEG19, 54 SEG20, 55 NC, 56 NC, 57 SEG21, 58 SEG22, 59 SEG23, 60 SEG24, 61 SEG25, 62 SEG26, 63 SEG27, 64 SEG28, 65 SEG29, 66 SEG30, 67 SEG31, 68 SEG32, 69 SEG33, 70 SEG34, 71 SEG35, 72 SEG36, 73 SEG37, 74 SEG38, 75 SEG39, 76 SGE40, 77 SEG41, 78 SEG42, 79 NC, 80 SEG43, 81 SEG44, 82 SEG45, 83 SEG46, 84 SEG47, 85 SEG48, 86 SEG49, 87 SEG50, 88 SEG51, 89 SEG52, 90 SEG53, 91 SEG54, 92 SEG55, 93 SEG56, 94 SEG57, 95 SEG58, 96 SEG59, 97 SEG60, 98 SEG61, 99 SEG62, 100 SEG63

## HT1626(100PIN)
designator M?
HT1626(100PIN)
footprint QFP100
pins: 1 ~{WR}, 2 DATA, 3 NC, 4 NC, 5 VSS, 6 OSC1, 7 OSC0, 8 VDD, 9 VLCD, 10 ~{IRQ}, 11 BZ, 12 ~{BZ}, 13 T1, 14 T2, 15 T3, 16 T4, 17 COM0, 18 COM1, 19 COM2, 20 COM3, 21 COM4, 22 NC, 23 COM5, 24 COM6, 25 COM7, 26 COM8, 27 COM9, 28 COM10, 29 COM11, 30 COM12, 31 COM13, 32 COM14, 33 COM15, 34 SEG0, 35 SEG1, 36 SEG2, 37 SEG3, 38 SEG4, 39 SEG5, 40 SEG6, 41 SEG7, 42 SEG8, 43 SEG9, 44 SEG10, 45 SEG11, 46 SEG12, 47 SEG13, 48 SEG14, 49 SEG15, 50 SEG16, 51 SEG17, 52 SEG18, 53 SEG19, 54 SEG20, 55 SEG21, 56 SEG22, 57 SEG23, 58 NC, 59 NC, 60 NC, 61 NC, 62 NC, 63 NC, 64 NC, 65 NC, 66 NC, 67 NC, 68 NC, 69 NC, 70 NC, 71 NC, 72 NC, 73 NC, 74 NC, 75 SEG24, 76 SEG25, 77 SEG26, 78 SEG27, 79 SEG28, 80 SEG29, 81 SEG30, 82 SEG31, 83 SEG32, 84 SEG33, 85 SEG34, 86 SEG35, 87 SEG36, 88 SEG37, 89 SEG38, 90 SEG39, 91 SEG40, 92 SEG41, 93 SEG42, 94 SEG43, 95 SEG44, 96 SEG45, 97 SEG46, 98 SEG47, 99 ~{CS}, 100 ~{RD}

## HT1647(100PIN)
designator M?
HT1647(100PIN)
footprint QFP100
pins: 1 ~{CS}, 2 ~{RD}, 3 ~{WR}, 4 DB0, 5 DB1, 6 DB2, 7 DB3, 8 VSS, 9 OSC1, 10 OSC0, 11 VDD, 12 VLCD, 13 ~{IRQ}, 14 BZ, 15 ~{BZ}, 16 T1, 17 T2, 18 T3, 19 T4, 20 NC, 21 COM0, 22 COM1, 23 COM2, 24 COM3, 25 COM4, 26 COM5, 27 COM6, 28 COM7, 29 COM8, 30 COM9, 31 COM10, 32 COM11, 33 COM12, 34 COM13, 35 COM14, 36 COM15, 37 SEG0, 38 SEG1, 39 SEG2, 40 SEG3, 41 SEG4, 42 SEG5, 43 SEG6, 44 SEG7, 45 SEG8, 46 SEG9, 47 SEG10, 48 SEG11, 49 SEG12, 50 SEG13, 51 SEG14, 52 SEG15, 53 SEG16, 54 SEG17, 55 SEG18, 56 SEG19, 57 SEG20, 58 SEG21, 59 SEG22, 60 SEG23, 61 SEG24, 62 SEG25, 63 SEG26, 64 SEG27, 65 SEG28, 66 SEG29, 67 SEG30, 68 SEG31, 69 SEG32, 70 SEG33, 71 SEG34, 72 SEG35, 73 SEG36, 74 SEG37, 75 SEG38, 76 SEG39, 77 SEG40, 78 SEG41, 79 SEG42, 80 SEG43, 81 SEG44, 82 SEG45, 83 SEG46, 84 SEG47, 85 SEG48, 86 SEG49, 87 SEG50, 88 SEG51, 89 SEG52, 90 SEG53, 91 SEG54, 92 SEG55, 93 SEG56, 94 SEG57, 95 SEG58, 96 SEG59, 97 SEG60, 98 SEG61, 99 SEG62, 100 SEG63

## HT16220(64PIN)
designator M?
HT16220(64PIN); 唯一出售店铺网址: https://shop463601444.taobao.com
footprint QFP64
pins: 1 ~{CS}, 2 NC, 3 ~{RD}, 4 ~{WR}, 5 DATA, 6 VSS, 7 VDD, 8 VLCD, 9 ~{IRQ}, 10 BZ, 11 ~{BZ}, 12 NC, 13 OSC0, 14 OSC1, 15 T1, 16 T2, 17 T3, 18 NC, 19 COM0, 20 COM1, 21 COM2, 22 COM3, 23 COM4, 24 COM5, 25 COM6, 26 COM7, 27 SEG0, 28 SEG1, 29 SEG2, 30 SEG3, 31 SEG4, 32 SEG5, 33 SEG6, 34 NC, 35 NC, 36 SEG7, 37 SEG8, 38 SEG9, 39 SEG10, 40 SEG11, 41 SEG12, 42 SEG13, 43 SEG14, 44 SEG15, 45 SEG16, 46 SEG17, 47 SEG18, 48 SEG19, 49 NC, 50 NC, 51 NC, 52 NC, 53 SEG20, 54 SEG21, 55 SEG22, 56 SEG23, 57 SEG24, 58 SEG25, 59 SEG26, 60 SEG27, 61 SEG28, 62 SEG29, 63 SEG30, 64 SEG31